# EAGLE library part NETWORK-RESISTER (library ncue_ee)
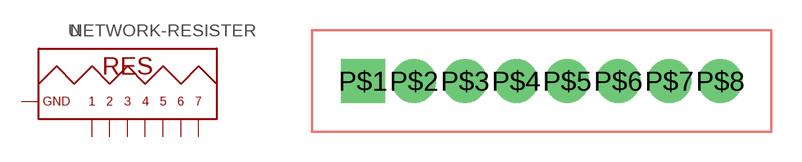
[diagram p7: symbol with the pads of NETWORK-RESISTOR; footprint NETWORK-RESISTOR]

Designator prefix -

## NETWORK-RESISTER  [NETWORK-RESISTOR]
P$1  P$1
P$2  P$2
P$3  P$3
P$4  P$4
P$5  P$5
P$6  P$6
P$7  P$7
P$8  P$8

## Footprint NETWORK-RESISTOR (pad centres in mm)
drill 1.016 pad 2.184 square: P$1 0,0
drill 1.016 pad 2.184: P$2 2.54,0; P$3 5.08,0; P$4 7.62,0; P$5 10.16,0; P$6 12.7,0; P$7 15.24,0; P$8 17.78,0